# Altium schematic symbol library J30MM.Schlib: 1 symbol
Pins are listed as number, name and electrical type; pins without a type are passive.

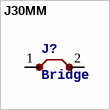
[diagram p0: symbol J30MM]

## J30MM
designator J?, comment Bridge
footprint 30
pins: 1, 2